# EAGLE library part TPA6130A2YZHT (library TPA6130A2YZHT)
138-mW DirectPath Stereo Headphone Amplifier with I2C Volume Control (TPA6130) Source: Datasheet <http://www.ti.com/lit/gpn/tpa6130a2>
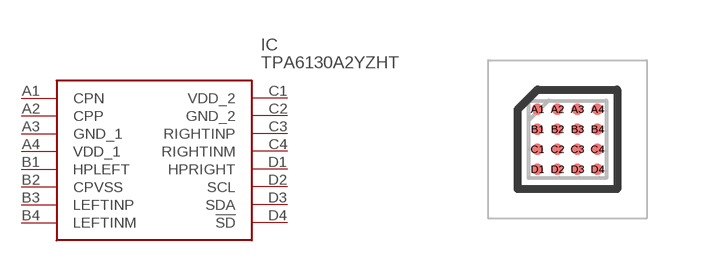
[diagram p0: symbol with the pads of BGA16C50P4X4_194X194X62; footprint BGA16C50P4X4_194X194X62]

Designator prefix IC

## TPA6130A2YZHT (Arrow_Part_Number: TPA6130A2YZHT; Arrow_Price-Stock: https://www.arrow.com/en/products/tpa6130a2yzht/texas-instruments; Description: 138-mW DirectPath Stereo Headphone Amplifier with I2C Volume Control (TPA6130); Height: 0.625mm; Manufacturer_Name: Texas Instruments; Manufacturer_Part_Number: TPA6130A2YZHT; Mouser_Part_Number: 595-TPA6130A2YZHT; Mouser_Price-Stock: https://www.mouser.co.uk/ProductDetail/Texas-Instruments/TPA6130A2YZHT?qs=sPPKN8MmjEqFy6cmPbRxcA%3D%3D)  [BGA16C50P4X4_194X194X62]
A1  CPN
A2  CPP
A3  GND_1
A4  VDD_1
B1  HPLEFT
B2  CPVSS
B3  LEFTINP
B4  LEFTINM
C1  VDD_2
C2  GND_2
C3  RIGHTINP
C4  RIGHTINM
D1  HPRIGHT
D2  SCL
D3  SDA
D4  !SD

## Footprint BGA16C50P4X4_194X194X62 (pad centres in mm)
TPA6130A2YZHT
smd 0.29 x 0.29: A1 -0.75,0.75; A2 -0.25,0.75; A3 0.25,0.75; A4 0.75,0.75; B1 -0.75,0.25; B2 -0.25,0.25; B3 0.25,0.25; B4 0.75,0.25; C1 -0.75,-0.25; C2 -0.25,-0.25; C3 0.25,-0.25; C4 0.75,-0.25; D1 -0.75,-0.75; D2 -0.25,-0.75; D3 0.25,-0.75; D4 0.75,-0.75